# Altium footprint library SnapEDApcb.PcbLib: 1 footprints
Each footprint in its own frame and in the unit in brackets; x right, y up, seen from the top. Pads: shape width x height; smd on the part's side, far side on the other; paste and mask are expansions set on the pad; w line width, h text height; cw(c..) or ccw(c..) is an arc to the next point about the centre after c.
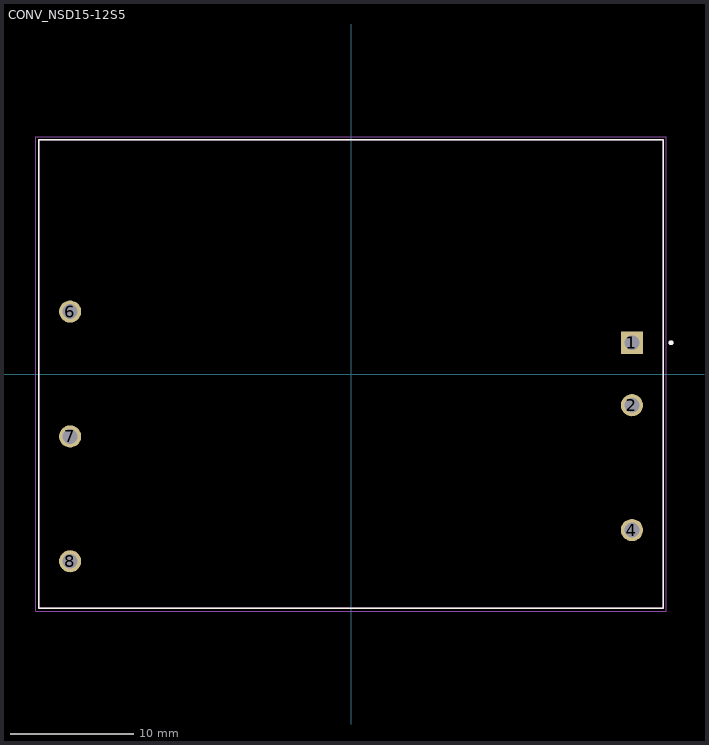
[diagram p0: the footprint, top view; thin cyan lines are the x and y axes]

## CONV_NSD15-12S5 [mm]
pads (6):
  rect 1.8x1.8 hole 1.2: 1(22.86,2.54)
  round 1.8 hole 1.2: 2(22.86,-2.54) 4(22.86,-12.7) 6(-22.86,5.08) 7(-22.86,-5.08) 8(-22.86,-15.24)
Top Overlay:
  circle w0.2: c26.035,2.54 r0.1
  lines w0.127: -25.4,-19.05 25.4,-19.05 25.4,19.05 -25.4,19.05 -25.4,-19.05
Mechanical 13:
  circle w0.2: c26.035,2.54 r0.1
  lines w0.127: -25.4,-19.05 -25.4,19.05 25.4,19.05 25.4,-19.05 -25.4,-19.05
Mechanical 15:
  lines w0.05: -25.65,-19.3 -25.65,19.3 25.65,19.3 25.65,-19.3 -25.65,-19.3
3D body: height 0, standoff 0, extent -22.86,5.08 -22.86,5.08
3D body: height 0, standoff 0, extent -22.86,-5.08 -22.86,-5.08
3D body: height 0, standoff 0, extent -22.86,-15.24 -22.86,-15.24
3D body: height 0, standoff 0, extent 22.827,-12.74 22.827,-12.74
3D body: height 0, standoff 0, extent 22.86,-2.54 22.86,-2.54
3D body: height 0, standoff 0, extent 22.86,2.54 22.86,2.54
3D body: height 3.98, standoff 0, extent 21.96,-13.6 23.76,-11.8
3D body: height 3.98, standoff 0, extent 21.96,-3.44 23.76,-1.64
3D body: height 3.98, standoff 0, extent 21.96,1.64 23.76,3.44
3D body: height 3.98, standoff 0, extent -23.76,-5.98 -21.96,-4.18
3D body: height 3.98, standoff 0, extent -23.76,4.18 -21.96,5.98
3D body: height 3.98, standoff 0, extent -23.76,-16.14 -21.96,-14.34
3D body: height 9.82, standoff 3.98, extent -25.4,-19.05 25.4,19.05